# Altium schematic symbol library Linear_Technology.SchLib: 5 symbols
Pins are listed as number, name and electrical type; pins without a type are passive.

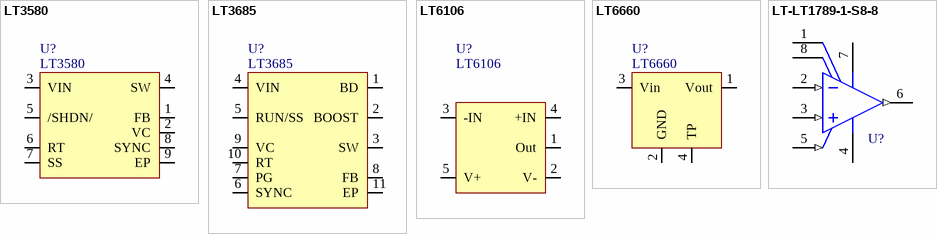
[diagram p0: symbols LT3580 to LT-LT1789-1-S8-8]

## LT3580
designator U?
Catalog: Farnell; Catalog number: 1663573; Price: *; Catalog page: *; Value: LT3580
footprint DFN 8 pins 3x3mm (SON, 8-Leads, Body 3x3mm, Pitch 0.5mm, Thermal Pad 2.38x1.65mm)
pins: 1 FB, 2 VC, 3 VIN, 4 SW, 5 /SHDN/, 6 RT, 7 SS, 8 SYNC, 9 EP

## LT3685
designator U?  value LT3685  (hidden comment: *)
Catalog: Farnell; Catalog page: *; Price: *; Catalog number: *
footprint DFN 10 PINS 3X3MM
pins: 1 BD, 2 BOOST, 3 SW, 4 VIN, 5 RUN/SS, 6 SYNC, 7 PG, 8 FB, 9 VC, 10 RT, 11 EP

## LT6106
designator U?
Catalog: Farnell; Catalog number: 1663841; Catalog page: http://lv.farnell.com/linear-technology/lt6106cs5-trmpbf/ic-current-s-amp-36v-tsot23-5/dp/1663841; Value: LT6106; Price: 1.72
footprint SOT23-5BM (SOT23, 5-Leads, Body 2.9x1.7mm, Pitch 0.95mm, Lead Span 2.8mm, IPC Low Density)
pins: 1 Out, 2 V-, 3 -IN, 4 +IN, 5 V+

## LT6660
designator U?
Catalog: Farnell; Catalog number: 1432118; Catalog page: http://lv.farnell.com/linear-technology/lt6660hcdc-2-5-pbf/ic-sm-volt-ref-2-5v/dp/1432118; Price: 1,48
footprint DFN-3
pins: 1 Vout, 2 GND, 3 Vin, 4 TP

## LT-LT1789-1-S8-8
designator U?
footprint LT-S8-8_N (SOIC, 8-Leads, Body 4.9x3.9mm, Pitch 1.27mm, IPC Medium Density)
pins: 1 RG, 2 -IN (in), 3 +IN (in), 4 -VS (power), 5 REF (in), 6 OUT (out), 7 +VS (power), 8 RG